# Altium integrated library Ferrite_Bead.IntLib: 160 symbols (part 1 of 2)
Pins are listed as number, name and electrical type; pins without a type are passive.

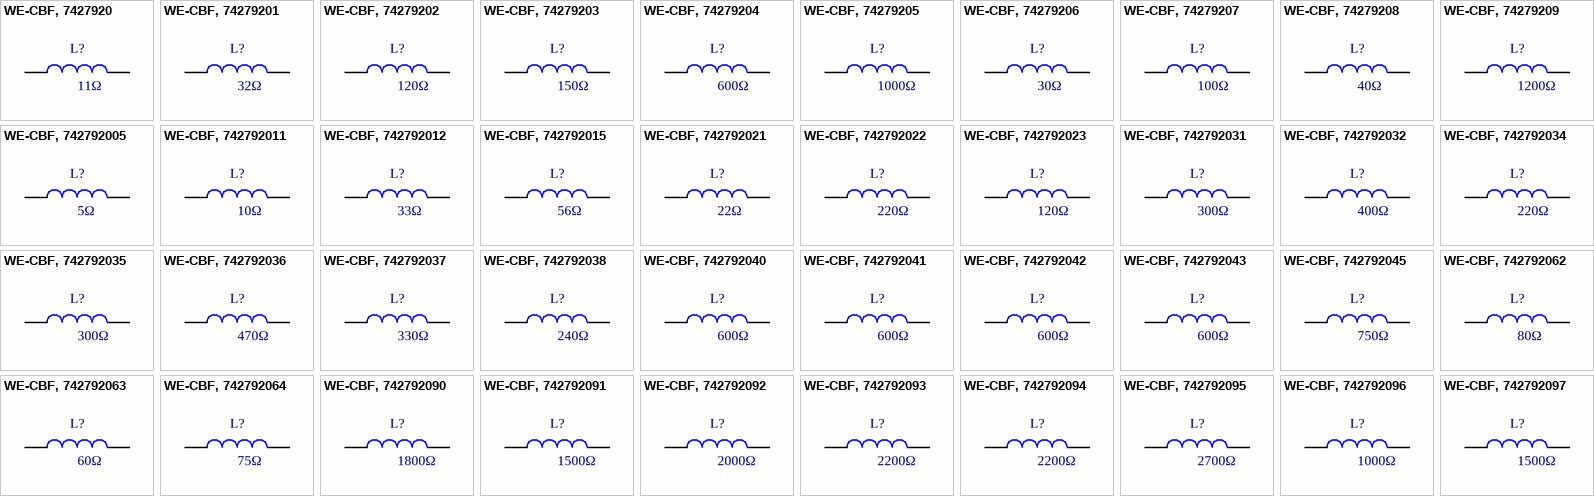
[diagram p0: symbols WE-CBF, 7427920 to WE-CBF, 742792097]

## WE-CBF, 7427920
designator L?, comment 11Ω
WE-CBF SMD EMI Suppression Ferrite Bead, 0805, 11Ω; PartNumber: 7427920; Type: High Speed; PublishedDate: Aug 2016; Publisher: Wurth Elektronik; ComponentLink1Description: Manufacturer; ComponentLink1URL: http://www.we-online.de; ComponentLink2Description: Datasheet; ComponentLink2URL: http://katalog.we-online.de/pbs/datasheet/7427920.pdf; Value: 11Ω; Size: 0805
footprint WE-CBF_0805_High Speed
pins: 1, 2

## WE-CBF, 74279201
designator L?, comment 32Ω
WE-CBF SMD EMI Suppression Ferrite Bead, 0805, 32Ω; PartNumber: 74279201; Type: High Speed; PublishedDate: Aug 2016; Publisher: Wurth Elektronik; ComponentLink1Description: Manufacturer; ComponentLink1URL: http://www.we-online.de; ComponentLink2Description: Datasheet; ComponentLink2URL: http://katalog.we-online.de/pbs/datasheet/74279201.pdf; Value: 32Ω; Size: 0805
footprint WE-CBF_0805_High Speed
pins: 1, 2

## WE-CBF, 74279202
designator L?, comment 120Ω
WE-CBF SMD EMI Suppression Ferrite Bead, 0805, 120Ω; PartNumber: 74279202; Type: High Speed; PublishedDate: Aug 2016; Publisher: Wurth Elektronik; ComponentLink1Description: Manufacturer; ComponentLink1URL: http://www.we-online.de; ComponentLink2Description: Datasheet; ComponentLink2URL: http://katalog.we-online.de/pbs/datasheet/74279202.pdf; Value: 120Ω; Size: 0805
footprint WE-CBF_0805_High Speed
pins: 1, 2

## WE-CBF, 74279203
designator L?, comment 150Ω
WE-CBF SMD EMI Suppression Ferrite Bead, 0805, 150Ω; PartNumber: 74279203; Type: High Speed; PublishedDate: Aug 2016; Publisher: Wurth Elektronik; ComponentLink1Description: Manufacturer; ComponentLink1URL: http://www.we-online.de; ComponentLink2Description: Datasheet; ComponentLink2URL: http://katalog.we-online.de/pbs/datasheet/74279203.pdf; Value: 150Ω; Size: 0805
footprint WE-CBF_0805_High Speed
pins: 1, 2

## WE-CBF, 74279204
designator L?, comment 600Ω
WE-CBF SMD EMI Suppression Ferrite Bead, 0805, 600Ω; PartNumber: 74279204; Type: Wide Band; PublishedDate: Aug 2016; Publisher: Wurth Elektronik; ComponentLink1Description: Manufacturer; ComponentLink1URL: http://www.we-online.de; ComponentLink2Description: Datasheet; ComponentLink2URL: http://katalog.we-online.de/pbs/datasheet/74279204.pdf; Value: 600Ω; Size: 0805
footprint WE-CBF_0805_Wide Band
pins: 1, 2

## WE-CBF, 74279205
designator L?, comment 1000Ω
WE-CBF SMD EMI Suppression Ferrite Bead, 0805, 1000Ω; PartNumber: 74279205; Type: Wide Band; PublishedDate: Aug 2016; Publisher: Wurth Elektronik; ComponentLink1Description: Manufacturer; ComponentLink1URL: http://www.we-online.de; ComponentLink2Description: Datasheet; ComponentLink2URL: http://katalog.we-online.de/pbs/datasheet/74279205.pdf; Value: 1000Ω; Size: 0805
footprint WE-CBF_0805_Wide Band
pins: 1, 2

## WE-CBF, 74279206
designator L?, comment 30Ω
WE-CBF SMD EMI Suppression Ferrite Bead, 0805, 30Ω; PartNumber: 74279206; Type: High Current; PublishedDate: Aug 2016; Publisher: Wurth Elektronik; ComponentLink1Description: Manufacturer; ComponentLink1URL: http://www.we-online.de; ComponentLink2Description: Datasheet; ComponentLink2URL: http://katalog.we-online.de/pbs/datasheet/74279206.pdf; Value: 30Ω; Size: 0805
footprint WE-CBF_0805_High Current
pins: 1, 2

## WE-CBF, 74279207
designator L?, comment 100Ω
WE-CBF SMD EMI Suppression Ferrite Bead, 0805, 100Ω; PartNumber: 74279207; Type: High Current; PublishedDate: Aug 2016; Publisher: Wurth Elektronik; ComponentLink1Description: Manufacturer; ComponentLink1URL: http://www.we-online.de; ComponentLink2Description: Datasheet; ComponentLink2URL: http://katalog.we-online.de/pbs/datasheet/74279207.pdf; Value: 100Ω; Size: 0805
footprint WE-CBF_0805_High Current
pins: 1, 2

## WE-CBF, 74279208
designator L?, comment 40Ω
WE-CBF SMD EMI Suppression Ferrite Bead, 0805, 40Ω; PartNumber: 74279208; Type: High Speed; PublishedDate: Aug 2016; Publisher: Wurth Elektronik; ComponentLink1Description: Manufacturer; ComponentLink1URL: http://www.we-online.de; ComponentLink2Description: Datasheet; ComponentLink2URL: http://katalog.we-online.de/pbs/datasheet/74279208.pdf; Value: 40Ω; Size: 0805
footprint WE-CBF_0805_High Speed
pins: 1, 2

## WE-CBF, 74279209
designator L?, comment 1200Ω
WE-CBF SMD EMI Suppression Ferrite Bead, 0805, 1200Ω; PartNumber: 74279209; Type: Wide Band; PublishedDate: Aug 2016; Publisher: Wurth Elektronik; ComponentLink1Description: Manufacturer; ComponentLink1URL: http://www.we-online.de; ComponentLink2Description: Datasheet; ComponentLink2URL: http://katalog.we-online.de/pbs/datasheet/74279209.pdf; Value: 1200Ω; Size: 0805
footprint WE-CBF_0805_Wide Band
pins: 1, 2

## WE-CBF, 742792005
designator L?, comment 5Ω
WE-CBF SMD EMI Suppression Ferrite Bead, 0805, 5Ω; PartNumber: 742792005; Type: High Speed; PublishedDate: Aug 2016; Publisher: Wurth Elektronik; ComponentLink1Description: Manufacturer; ComponentLink1URL: http://www.we-online.de; ComponentLink2Description: Datasheet; ComponentLink2URL: http://katalog.we-online.de/pbs/datasheet/742792005.pdf; Value: 5Ω; Size: 0805
footprint WE-CBF_0805_High Speed
pins: 1, 2

## WE-CBF, 742792011
designator L?, comment 10Ω
WE-CBF SMD EMI Suppression Ferrite Bead, 0805, 10Ω; PartNumber: 742792011; Type: High Current; PublishedDate: Aug 2016; Publisher: Wurth Elektronik; ComponentLink1Description: Manufacturer; ComponentLink1URL: http://www.we-online.de; ComponentLink2Description: Datasheet; ComponentLink2URL: http://katalog.we-online.de/pbs/datasheet/742792011.pdf; Value: 10Ω; Size: 0805
footprint WE-CBF_0805_High Current
pins: 1, 2

## WE-CBF, 742792012
designator L?, comment 33Ω
WE-CBF SMD EMI Suppression Ferrite Bead, 0805, 33Ω; PartNumber: 742792012; Type: High Current; PublishedDate: Aug 2016; Publisher: Wurth Elektronik; ComponentLink1Description: Manufacturer; ComponentLink1URL: http://www.we-online.de; ComponentLink2Description: Datasheet; ComponentLink2URL: http://katalog.we-online.de/pbs/datasheet/742792012.pdf; Value: 33Ω; Size: 0805
footprint WE-CBF_0805_High Current
pins: 1, 2

## WE-CBF, 742792015
designator L?, comment 56Ω
WE-CBF SMD EMI Suppression Ferrite Bead, 0805, 56Ω; PartNumber: 742792015; Type: Wide Band; PublishedDate: Aug 2016; Publisher: Wurth Elektronik; ComponentLink1Description: Manufacturer; ComponentLink1URL: http://www.we-online.de; ComponentLink2Description: Datasheet; ComponentLink2URL: http://katalog.we-online.de/pbs/datasheet/742792015.pdf; Value: 56Ω; Size: 0805
footprint WE-CBF_0805_Wide Band
pins: 1, 2

## WE-CBF, 742792021
designator L?, comment 22Ω
WE-CBF SMD EMI Suppression Ferrite Bead, 0805, 22Ω; PartNumber: 742792021; Type: High Current; PublishedDate: Aug 2016; Publisher: Wurth Elektronik; ComponentLink1Description: Manufacturer; ComponentLink1URL: http://www.we-online.de; ComponentLink2Description: Datasheet; ComponentLink2URL: http://katalog.we-online.de/pbs/datasheet/742792021.pdf; Value: 22Ω; Size: 0805
footprint WE-CBF_0805_High Current
pins: 1, 2

## WE-CBF, 742792022
designator L?, comment 220Ω
WE-CBF SMD EMI Suppression Ferrite Bead, 0805, 220Ω; PartNumber: 742792022; Type: High Current; PublishedDate: Aug 2016; Publisher: Wurth Elektronik; ComponentLink1Description: Manufacturer; ComponentLink1URL: http://www.we-online.de; ComponentLink2Description: Datasheet; ComponentLink2URL: http://katalog.we-online.de/pbs/datasheet/742792022.pdf; Value: 220Ω; Size: 0805
footprint WE-CBF_0805_High Current
pins: 1, 2

## WE-CBF, 742792023
designator L?, comment 120Ω
WE-CBF SMD EMI Suppression Ferrite Bead, 0805, 120Ω; PartNumber: 742792023; Type: High Current; PublishedDate: Aug 2016; Publisher: Wurth Elektronik; ComponentLink1Description: Manufacturer; ComponentLink1URL: http://www.we-online.de; ComponentLink2Description: Datasheet; ComponentLink2URL: http://katalog.we-online.de/pbs/datasheet/742792023.pdf; Value: 120Ω; Size: 0805
footprint WE-CBF_0805_High Current
pins: 1, 2

## WE-CBF, 742792031
designator L?, comment 300Ω
WE-CBF SMD EMI Suppression Ferrite Bead, 0805, 300Ω; PartNumber: 742792031; Type: High Current; PublishedDate: Aug 2016; Publisher: Wurth Elektronik; ComponentLink1Description: Manufacturer; ComponentLink1URL: http://www.we-online.de; ComponentLink2Description: Datasheet; ComponentLink2URL: http://katalog.we-online.de/pbs/datasheet/742792031.pdf; Value: 300Ω; Size: 0805
footprint WE-CBF_0805_High Current
pins: 1, 2

## WE-CBF, 742792032
designator L?, comment 400Ω
WE-CBF SMD EMI Suppression Ferrite Bead, 0805, 400Ω; PartNumber: 742792032; Type: Wide Band; PublishedDate: Aug 2016; Publisher: Wurth Elektronik; ComponentLink1Description: Manufacturer; ComponentLink1URL: http://www.we-online.de; ComponentLink2Description: Datasheet; ComponentLink2URL: http://katalog.we-online.de/pbs/datasheet/742792032.pdf; Value: 400Ω; Size: 0805
footprint WE-CBF_0805_Wide Band
pins: 1, 2

## WE-CBF, 742792034
designator L?, comment 220Ω
WE-CBF SMD EMI Suppression Ferrite Bead, 0805, 220Ω; PartNumber: 742792034; Type: High Speed; PublishedDate: Aug 2016; Publisher: Wurth Elektronik; ComponentLink1Description: Manufacturer; ComponentLink1URL: http://www.we-online.de; ComponentLink2Description: Datasheet; ComponentLink2URL: http://katalog.we-online.de/pbs/datasheet/742792034.pdf; Value: 220Ω; Size: 0805
footprint WE-CBF_0805_High Speed
pins: 1, 2

## WE-CBF, 742792035
designator L?, comment 300Ω
WE-CBF SMD EMI Suppression Ferrite Bead, 0805, 300Ω; PartNumber: 742792035; Type: High Speed; PublishedDate: Aug 2016; Publisher: Wurth Elektronik; ComponentLink1Description: Manufacturer; ComponentLink1URL: http://www.we-online.de; ComponentLink2Description: Datasheet; ComponentLink2URL: http://katalog.we-online.de/pbs/datasheet/742792035.pdf; Value: 300Ω; Size: 0805
footprint WE-CBF_0805_High Speed
pins: 1, 2

## WE-CBF, 742792036
designator L?, comment 470Ω
WE-CBF SMD EMI Suppression Ferrite Bead, 0805, 470Ω; PartNumber: 742792036; Type: Wide Band; PublishedDate: Aug 2016; Publisher: Wurth Elektronik; ComponentLink1Description: Manufacturer; ComponentLink1URL: http://www.we-online.de; ComponentLink2Description: Datasheet; ComponentLink2URL: http://katalog.we-online.de/pbs/datasheet/742792036.pdf; Value: 470Ω; Size: 0805
footprint WE-CBF_0805_Wide Band
pins: 1, 2

## WE-CBF, 742792037
designator L?, comment 330Ω
WE-CBF SMD EMI Suppression Ferrite Bead, 0805, 330Ω; PartNumber: 742792037; Type: High Current; PublishedDate: Aug 2016; Publisher: Wurth Elektronik; ComponentLink1Description: Manufacturer; ComponentLink1URL: http://www.we-online.de; ComponentLink2Description: Datasheet; ComponentLink2URL: http://katalog.we-online.de/pbs/datasheet/742792037.pdf; Value: 330Ω; Size: 0805
footprint WE-CBF_0805_High Current
pins: 1, 2

## WE-CBF, 742792038
designator L?, comment 240Ω
WE-CBF SMD EMI Suppression Ferrite Bead, 0805, 240Ω; PartNumber: 742792038; Type: Wide Band; PublishedDate: Aug 2016; Publisher: Wurth Elektronik; ComponentLink1Description: Manufacturer; ComponentLink1URL: http://www.we-online.de; ComponentLink2Description: Datasheet; ComponentLink2URL: http://katalog.we-online.de/pbs/datasheet/742792038.pdf; Value: 240Ω; Size: 0805
footprint WE-CBF_0805_Wide Band
pins: 1, 2

## WE-CBF, 742792040
designator L?, comment 600Ω
WE-CBF SMD EMI Suppression Ferrite Bead, 0805, 600Ω; PartNumber: 742792040; Type: High Current; PublishedDate: Aug 2016; Publisher: Wurth Elektronik; ComponentLink1Description: Manufacturer; ComponentLink1URL: http://www.we-online.de; ComponentLink2Description: Datasheet; ComponentLink2URL: http://katalog.we-online.de/pbs/datasheet/742792040.pdf; Value: 600Ω; Size: 0805
footprint WE-CBF_0805_High Current
pins: 1, 2

## WE-CBF, 742792041
designator L?, comment 600Ω
WE-CBF SMD EMI Suppression Ferrite Bead, 0805, 600Ω; PartNumber: 742792041; Type: Wide Band; PublishedDate: Aug 2016; Publisher: Wurth Elektronik; ComponentLink1Description: Manufacturer; ComponentLink1URL: http://www.we-online.de; ComponentLink2Description: Datasheet; ComponentLink2URL: http://katalog.we-online.de/pbs/datasheet/742792041.pdf; Value: 600Ω; Size: 0805
footprint WE-CBF_0805_Wide Band
pins: 1, 2

## WE-CBF, 742792042
designator L?, comment 600Ω
WE-CBF SMD EMI Suppression Ferrite Bead, 0805, 600Ω; PartNumber: 742792042; Type: High Speed; PublishedDate: Aug 2016; Publisher: Wurth Elektronik; ComponentLink1Description: Manufacturer; ComponentLink1URL: http://www.we-online.de; ComponentLink2Description: Datasheet; ComponentLink2URL: http://katalog.we-online.de/pbs/datasheet/742792042.pdf; Value: 600Ω; Size: 0805
footprint WE-CBF_0805_High Speed
pins: 1, 2

## WE-CBF, 742792043
designator L?, comment 600Ω
WE-CBF SMD EMI Suppression Ferrite Bead, 0805, 600Ω; PartNumber: 742792043; Type: High Speed; PublishedDate: Aug 2016; Publisher: Wurth Elektronik; ComponentLink1Description: Manufacturer; ComponentLink1URL: http://www.we-online.de; ComponentLink2Description: Datasheet; ComponentLink2URL: http://katalog.we-online.de/pbs/datasheet/742792043.pdf; Value: 600Ω; Size: 0805
footprint WE-CBF_0805_High Speed
pins: 1, 2

## WE-CBF, 742792045
designator L?, comment 750Ω
WE-CBF SMD EMI Suppression Ferrite Bead, 0805, 750Ω; PartNumber: 742792045; Type: High Speed; PublishedDate: Aug 2016; Publisher: Wurth Elektronik; ComponentLink1Description: Manufacturer; ComponentLink1URL: http://www.we-online.de; ComponentLink2Description: Datasheet; ComponentLink2URL: http://katalog.we-online.de/pbs/datasheet/742792045.pdf; Value: 750Ω; Size: 0805
footprint WE-CBF_0805_High Speed
pins: 1, 2

## WE-CBF, 742792062
designator L?, comment 80Ω
WE-CBF SMD EMI Suppression Ferrite Bead, 0805, 80Ω; PartNumber: 742792062; Type: Wide Band; PublishedDate: Aug 2016; Publisher: Wurth Elektronik; ComponentLink1Description: Manufacturer; ComponentLink1URL: http://www.we-online.de; ComponentLink2Description: Datasheet; ComponentLink2URL: http://katalog.we-online.de/pbs/datasheet/742792062.pdf; Value: 80Ω; Size: 0805
footprint WE-CBF_0805_Wide Band
pins: 1, 2

## WE-CBF, 742792063
designator L?, comment 60Ω
WE-CBF SMD EMI Suppression Ferrite Bead, 0805, 60Ω; PartNumber: 742792063; Type: High Current; PublishedDate: Aug 2016; Publisher: Wurth Elektronik; ComponentLink1Description: Manufacturer; ComponentLink1URL: http://www.we-online.de; ComponentLink2Description: Datasheet; ComponentLink2URL: http://katalog.we-online.de/pbs/datasheet/742792063.pdf; Value: 60Ω; Size: 0805
footprint WE-CBF_0805_High Current
pins: 1, 2

## WE-CBF, 742792064
designator L?, comment 75Ω
WE-CBF SMD EMI Suppression Ferrite Bead, 0805, 75Ω; PartNumber: 742792064; Type: High Speed; PublishedDate: Aug 2016; Publisher: Wurth Elektronik; ComponentLink1Description: Manufacturer; ComponentLink1URL: http://www.we-online.de; ComponentLink2Description: Datasheet; ComponentLink2URL: http://katalog.we-online.de/pbs/datasheet/742792064.pdf; Value: 75Ω; Size: 0805
footprint WE-CBF_0805_High Speed
pins: 1, 2

## WE-CBF, 742792090
designator L?, comment 1800Ω
WE-CBF SMD EMI Suppression Ferrite Bead, 0805, 1800Ω; PartNumber: 742792090; Type: Wide Band; PublishedDate: Aug 2016; Publisher: Wurth Elektronik; ComponentLink1Description: Manufacturer; ComponentLink1URL: http://www.we-online.de; ComponentLink2Description: Datasheet; ComponentLink2URL: http://katalog.we-online.de/pbs/datasheet/742792090.pdf; Value: 1800Ω; Size: 0805
footprint WE-CBF_0805_Wide Band
pins: 1, 2

## WE-CBF, 742792091
designator L?, comment 1500Ω
WE-CBF SMD EMI Suppression Ferrite Bead, 0805, 1500Ω; PartNumber: 742792091; Type: Wide Band; PublishedDate: Aug 2016; Publisher: Wurth Elektronik; ComponentLink1Description: Manufacturer; ComponentLink1URL: http://www.we-online.de; ComponentLink2Description: Datasheet; ComponentLink2URL: http://katalog.we-online.de/pbs/datasheet/742792091.pdf; Value: 1500Ω; Size: 0805
footprint WE-CBF_0805_Wide Band
pins: 1, 2

## WE-CBF, 742792092
designator L?, comment 2000Ω
WE-CBF SMD EMI Suppression Ferrite Bead, 0805, 2000Ω; PartNumber: 742792092; Type: Wide Band; PublishedDate: Aug 2016; Publisher: Wurth Elektronik; ComponentLink1Description: Manufacturer; ComponentLink1URL: http://www.we-online.de; ComponentLink2Description: Datasheet; ComponentLink2URL: http://katalog.we-online.de/pbs/datasheet/742792092.pdf; Value: 2000Ω; Size: 0805
footprint WE-CBF_0805_Wide Band
pins: 1, 2

## WE-CBF, 742792093
designator L?, comment 2200Ω
WE-CBF SMD EMI Suppression Ferrite Bead, 0805, 2200Ω; PartNumber: 742792093; Type: Wide Band; PublishedDate: Aug 2016; Publisher: Wurth Elektronik; ComponentLink1Description: Manufacturer; ComponentLink1URL: http://www.we-online.de; ComponentLink2Description: Datasheet; ComponentLink2URL: http://katalog.we-online.de/pbs/datasheet/742792093.pdf; Value: 2200Ω; Size: 0805
footprint WE-CBF_0805_Wide Band
pins: 1, 2

## WE-CBF, 742792094
designator L?, comment 2200Ω
WE-CBF SMD EMI Suppression Ferrite Bead, 0805, 2200Ω; PartNumber: 742792094; Type: Wide Band; PublishedDate: Aug 2016; Publisher: Wurth Elektronik; ComponentLink1Description: Manufacturer; ComponentLink1URL: http://www.we-online.de; ComponentLink2Description: Datasheet; ComponentLink2URL: http://katalog.we-online.de/pbs/datasheet/742792094.pdf; Value: 2200Ω; Size: 0805
footprint WE-CBF_0805_Wide Band
pins: 1, 2

## WE-CBF, 742792095
designator L?, comment 2700Ω
WE-CBF SMD EMI Suppression Ferrite Bead, 0805, 2700Ω; PartNumber: 742792095; Type: Wide Band; PublishedDate: Aug 2016; Publisher: Wurth Elektronik; ComponentLink1Description: Manufacturer; ComponentLink1URL: http://www.we-online.de; ComponentLink2Description: Datasheet; ComponentLink2URL: http://katalog.we-online.de/pbs/datasheet/742792095.pdf; Value: 2700Ω; Size: 0805
footprint WE-CBF_0805_Wide Band
pins: 1, 2

## WE-CBF, 742792096
designator L?, comment 1000Ω
WE-CBF SMD EMI Suppression Ferrite Bead, 0805, 1000Ω; PartNumber: 742792096; Type: High Current; PublishedDate: Aug 2016; Publisher: Wurth Elektronik; ComponentLink1Description: Manufacturer; ComponentLink1URL: http://www.we-online.de; ComponentLink2Description: Datasheet; ComponentLink2URL: http://katalog.we-online.de/pbs/datasheet/742792096.pdf; Value: 1000Ω; Size: 0805
footprint WE-CBF_0805_High Current
pins: 1, 2

## WE-CBF, 742792097
designator L?, comment 1500Ω
WE-CBF SMD EMI Suppression Ferrite Bead, 0805, 1500Ω; PartNumber: 742792097; Type: High Current; PublishedDate: Aug 2016; Publisher: Wurth Elektronik; ComponentLink1Description: Manufacturer; ComponentLink1URL: http://www.we-online.de; ComponentLink2Description: Datasheet; ComponentLink2URL: http://katalog.we-online.de/pbs/datasheet/742792097.pdf; Value: 1500Ω; Size: 0805
footprint WE-CBF_0805_High Current
pins: 1, 2

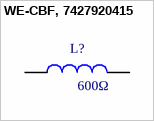
[diagram p1: symbol WE-CBF, 7427920415]

## WE-CBF, 7427920415
designator L?, comment 600Ω
WE-CBF SMD EMI Suppression Ferrite Bead, 0805, 600Ω; PartNumber: 7427920415; Type: Wide Band; PublishedDate: Aug 2016; Publisher: Wurth Elektronik; ComponentLink1Description: Manufacturer; ComponentLink1URL: http://www.we-online.de; ComponentLink2Description: Datasheet; ComponentLink2URL: http://katalog.we-online.de/pbs/datasheet/7427920415.pdf; Value: 600Ω; Size: 0805
footprint WE-CBF_0805_Wide Band
pins: 1, 2


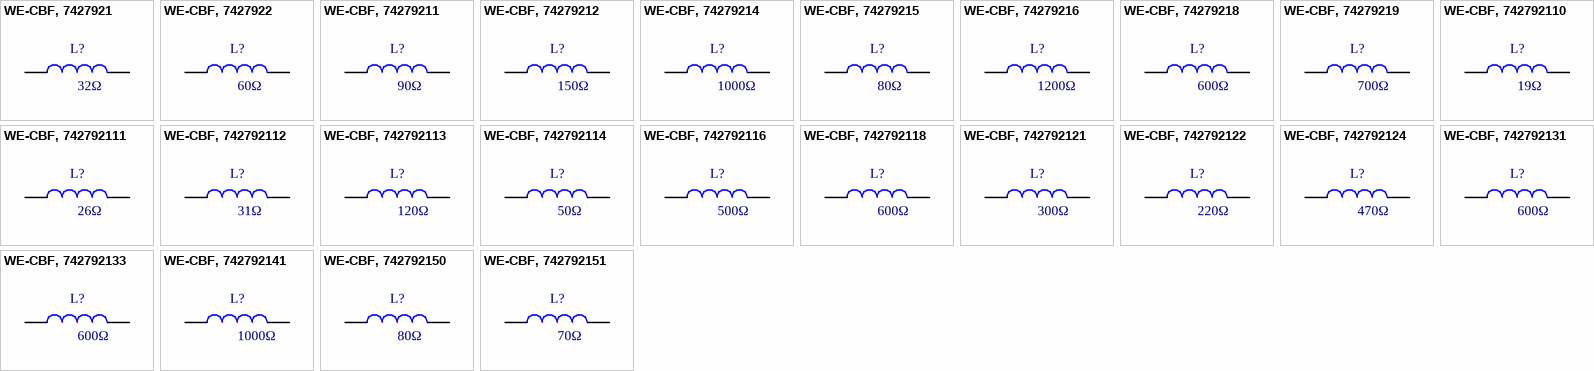
[diagram p2: symbols WE-CBF, 7427921 to WE-CBF, 742792151]

## WE-CBF, 7427921
designator L?, comment 32Ω
WE-CBF SMD EMI Suppression Ferrite Bead, 1206, 32Ω; PartNumber: 7427921; Type: High Speed; PublishedDate: Aug 2016; Publisher: Wurth Elektronik; ComponentLink1Description: Manufacturer; ComponentLink1URL: http://www.we-online.de; ComponentLink2Description: Datasheet; ComponentLink2URL: http://katalog.we-online.de/pbs/datasheet/7427921.pdf; Value: 32Ω; Size: 1206
footprint WE-CBF_1206_High Speed
pins: 1, 2

## WE-CBF, 7427922
designator L?, comment 60Ω
WE-CBF SMD EMI Suppression Ferrite Bead, 1206, 60Ω; PartNumber: 7427922; Type: High Speed; PublishedDate: Aug 2016; Publisher: Wurth Elektronik; ComponentLink1Description: Manufacturer; ComponentLink1URL: http://www.we-online.de; ComponentLink2Description: Datasheet; ComponentLink2URL: http://katalog.we-online.de/pbs/datasheet/7427922.pdf; Value: 60Ω; Size: 1206
footprint WE-CBF_1206_High Speed
pins: 1, 2

## WE-CBF, 74279211
designator L?, comment 90Ω
WE-CBF SMD EMI Suppression Ferrite Bead, 1206, 90Ω; PartNumber: 74279211; Type: High Speed; PublishedDate: Aug 2016; Publisher: Wurth Elektronik; ComponentLink1Description: Manufacturer; ComponentLink1URL: http://www.we-online.de; ComponentLink2Description: Datasheet; ComponentLink2URL: http://katalog.we-online.de/pbs/datasheet/74279211.pdf; Value: 90Ω; Size: 1206
footprint WE-CBF_1206_High Speed
pins: 1, 2

## WE-CBF, 74279212
designator L?, comment 150Ω
WE-CBF SMD EMI Suppression Ferrite Bead, 1206, 150Ω; PartNumber: 74279212; Type: High Speed; PublishedDate: Aug 2016; Publisher: Wurth Elektronik; ComponentLink1Description: Manufacturer; ComponentLink1URL: http://www.we-online.de; ComponentLink2Description: Datasheet; ComponentLink2URL: http://katalog.we-online.de/pbs/datasheet/74279212.pdf; Value: 150Ω; Size: 1206
footprint WE-CBF_1206_High Speed
pins: 1, 2

## WE-CBF, 74279214
designator L?, comment 1000Ω
WE-CBF SMD EMI Suppression Ferrite Bead, 1206, 1000Ω; PartNumber: 74279214; Type: Wide Band; PublishedDate: Aug 2016; Publisher: Wurth Elektronik; ComponentLink1Description: Manufacturer; ComponentLink1URL: http://www.we-online.de; ComponentLink2Description: Datasheet; ComponentLink2URL: http://katalog.we-online.de/pbs/datasheet/74279214.pdf; Value: 1000Ω; Size: 1206
footprint WE-CBF_1206_Wide Band
pins: 1, 2

## WE-CBF, 74279215
designator L?, comment 80Ω
WE-CBF SMD EMI Suppression Ferrite Bead, 1206, 80Ω; PartNumber: 74279215; Type: High Current; PublishedDate: Aug 2016; Publisher: Wurth Elektronik; ComponentLink1Description: Manufacturer; ComponentLink1URL: http://www.we-online.de; ComponentLink2Description: Datasheet; ComponentLink2URL: http://katalog.we-online.de/pbs/datasheet/74279215.pdf; Value: 80Ω; Size: 1206
footprint WE-CBF_1206_High Current
pins: 1, 2

## WE-CBF, 74279216
designator L?, comment 1200Ω
WE-CBF SMD EMI Suppression Ferrite Bead, 1206, 1200Ω; PartNumber: 74279216; Type: Wide Band; PublishedDate: Aug 2016; Publisher: Wurth Elektronik; ComponentLink1Description: Manufacturer; ComponentLink1URL: http://www.we-online.de; ComponentLink2Description: Datasheet; ComponentLink2URL: http://katalog.we-online.de/pbs/datasheet/74279216.pdf; Value: 1200Ω; Size: 1206
footprint WE-CBF_1206_Wide Band
pins: 1, 2

## WE-CBF, 74279218
designator L?, comment 600Ω
WE-CBF SMD EMI Suppression Ferrite Bead, 1206, 600Ω; PartNumber: 74279218; Type: High Current; PublishedDate: Aug 2016; Publisher: Wurth Elektronik; ComponentLink1Description: Manufacturer; ComponentLink1URL: http://www.we-online.de; ComponentLink2Description: Datasheet; ComponentLink2URL: http://katalog.we-online.de/pbs/datasheet/74279218.pdf; Value: 600Ω; Size: 1206
footprint WE-CBF_1206_High Current
pins: 1, 2

## WE-CBF, 74279219
designator L?, comment 700Ω
WE-CBF SMD EMI Suppression Ferrite Bead, 1206, 700Ω; PartNumber: 74279219; Type: Wide Band; PublishedDate: Aug 2016; Publisher: Wurth Elektronik; ComponentLink1Description: Manufacturer; ComponentLink1URL: http://www.we-online.de; ComponentLink2Description: Datasheet; ComponentLink2URL: http://katalog.we-online.de/pbs/datasheet/74279219.pdf; Value: 700Ω; Size: 1206
footprint WE-CBF_1206_Wide Band
pins: 1, 2

## WE-CBF, 742792110
designator L?, comment 19Ω
WE-CBF SMD EMI Suppression Ferrite Bead, 1206, 19Ω; PartNumber: 742792110; Type: High Current; PublishedDate: Aug 2016; Publisher: Wurth Elektronik; ComponentLink1Description: Manufacturer; ComponentLink1URL: http://www.we-online.de; ComponentLink2Description: Datasheet; ComponentLink2URL: http://katalog.we-online.de/pbs/datasheet/742792110.pdf; Value: 19Ω; Size: 1206
footprint WE-CBF_1206_High Current
pins: 1, 2

## WE-CBF, 742792111
designator L?, comment 26Ω
WE-CBF SMD EMI Suppression Ferrite Bead, 1206, 26Ω; PartNumber: 742792111; Type: High Current; PublishedDate: Aug 2016; Publisher: Wurth Elektronik; ComponentLink1Description: Manufacturer; ComponentLink1URL: http://www.we-online.de; ComponentLink2Description: Datasheet; ComponentLink2URL: http://katalog.we-online.de/pbs/datasheet/742792111.pdf; Value: 26Ω; Size: 1206
footprint WE-CBF_1206_High Current
pins: 1, 2

## WE-CBF, 742792112
designator L?, comment 31Ω
WE-CBF SMD EMI Suppression Ferrite Bead, 1206, 31Ω; PartNumber: 742792112; Type: High Current; PublishedDate: Aug 2016; Publisher: Wurth Elektronik; ComponentLink1Description: Manufacturer; ComponentLink1URL: http://www.we-online.de; ComponentLink2Description: Datasheet; ComponentLink2URL: http://katalog.we-online.de/pbs/datasheet/742792112.pdf; Value: 31Ω; Size: 1206
footprint WE-CBF_1206_High Current
pins: 1, 2

## WE-CBF, 742792113
designator L?, comment 120Ω
WE-CBF SMD EMI Suppression Ferrite Bead, 1206, 120Ω; PartNumber: 742792113; Type: High Current; PublishedDate: Aug 2016; Publisher: Wurth Elektronik; ComponentLink1Description: Manufacturer; ComponentLink1URL: http://www.we-online.de; ComponentLink2Description: Datasheet; ComponentLink2URL: http://katalog.we-online.de/pbs/datasheet/742792113.pdf; Value: 120Ω; Size: 1206
footprint WE-CBF_1206_High Current
pins: 1, 2

## WE-CBF, 742792114
designator L?, comment 50Ω
WE-CBF SMD EMI Suppression Ferrite Bead, 1206, 50Ω; PartNumber: 742792114; Type: High Current; PublishedDate: Aug 2016; Publisher: Wurth Elektronik; ComponentLink1Description: Manufacturer; ComponentLink1URL: http://www.we-online.de; ComponentLink2Description: Datasheet; ComponentLink2URL: http://katalog.we-online.de/pbs/datasheet/742792114.pdf; Value: 50Ω; Size: 1206
footprint WE-CBF_1206_High Current
pins: 1, 2

## WE-CBF, 742792116
designator L?, comment 500Ω
WE-CBF SMD EMI Suppression Ferrite Bead, 1206, 500Ω; PartNumber: 742792116; Type: High Current; PublishedDate: Aug 2016; Publisher: Wurth Elektronik; ComponentLink1Description: Manufacturer; ComponentLink1URL: http://www.we-online.de; ComponentLink2Description: Datasheet; ComponentLink2URL: http://katalog.we-online.de/pbs/datasheet/742792116.pdf; Value: 500Ω; Size: 1206
footprint WE-CBF_1206_High Current
pins: 1, 2

## WE-CBF, 742792118
designator L?, comment 600Ω
WE-CBF SMD EMI Suppression Ferrite Bead, 1206, 600Ω; PartNumber: 742792118; Type: High Current; PublishedDate: Aug 2016; Publisher: Wurth Elektronik; ComponentLink1Description: Manufacturer; ComponentLink1URL: http://www.we-online.de; ComponentLink2Description: Datasheet; ComponentLink2URL: http://katalog.we-online.de/pbs/datasheet/742792118.pdf; Value: 600Ω; Size: 1206
footprint WE-CBF_1206_High Current
pins: 1, 2

## WE-CBF, 742792121
designator L?, comment 300Ω
WE-CBF SMD EMI Suppression Ferrite Bead, 1206, 300Ω; PartNumber: 742792121; Type: High Current; PublishedDate: Aug 2016; Publisher: Wurth Elektronik; ComponentLink1Description: Manufacturer; ComponentLink1URL: http://www.we-online.de; ComponentLink2Description: Datasheet; ComponentLink2URL: http://katalog.we-online.de/pbs/datasheet/742792121.pdf; Value: 300Ω; Size: 1206
footprint WE-CBF_1206_High Current
pins: 1, 2

## WE-CBF, 742792122
designator L?, comment 220Ω
WE-CBF SMD EMI Suppression Ferrite Bead, 1206, 220Ω; PartNumber: 742792122; Type: High Speed; PublishedDate: Aug 2016; Publisher: Wurth Elektronik; ComponentLink1Description: Manufacturer; ComponentLink1URL: http://www.we-online.de; ComponentLink2Description: Datasheet; ComponentLink2URL: http://katalog.we-online.de/pbs/datasheet/742792122.pdf; Value: 220Ω; Size: 1206
footprint WE-CBF_1206_High Speed
pins: 1, 2

## WE-CBF, 742792124
designator L?, comment 470Ω
WE-CBF SMD EMI Suppression Ferrite Bead, 1206, 470Ω; PartNumber: 742792124; Type: Wide Band; PublishedDate: Aug 2016; Publisher: Wurth Elektronik; ComponentLink1Description: Manufacturer; ComponentLink1URL: http://www.we-online.de; ComponentLink2Description: Datasheet; ComponentLink2URL: http://katalog.we-online.de/pbs/datasheet/742792124.pdf; Value: 470Ω; Size: 1206
footprint WE-CBF_1206_Wide Band
pins: 1, 2

## WE-CBF, 742792131
designator L?, comment 600Ω
WE-CBF SMD EMI Suppression Ferrite Bead, 1206, 600Ω; PartNumber: 742792131; Type: Wide Band; PublishedDate: Aug 2016; Publisher: Wurth Elektronik; ComponentLink1Description: Manufacturer; ComponentLink1URL: http://www.we-online.de; ComponentLink2Description: Datasheet; ComponentLink2URL: http://katalog.we-online.de/pbs/datasheet/742792131.pdf; Value: 600Ω; Size: 1206
footprint WE-CBF_1206_Wide Band
pins: 1, 2

## WE-CBF, 742792133
designator L?, comment 600Ω
WE-CBF SMD EMI Suppression Ferrite Bead, 1206, 600Ω; PartNumber: 742792133; Type: Wide Band; PublishedDate: Aug 2016; Publisher: Wurth Elektronik; ComponentLink1Description: Manufacturer; ComponentLink1URL: http://www.we-online.de; ComponentLink2Description: Datasheet; ComponentLink2URL: http://katalog.we-online.de/pbs/datasheet/742792133.pdf; Value: 600Ω; Size: 1206
footprint WE-CBF_1206_Wide Band
pins: 1, 2

## WE-CBF, 742792141
designator L?, comment 1000Ω
WE-CBF SMD EMI Suppression Ferrite Bead, 1206, 1000Ω; PartNumber: 742792141; Type: High Current; PublishedDate: Aug 2016; Publisher: Wurth Elektronik; ComponentLink1Description: Manufacturer; ComponentLink1URL: http://www.we-online.de; ComponentLink2Description: Datasheet; ComponentLink2URL: http://katalog.we-online.de/pbs/datasheet/742792141.pdf; Value: 1000Ω; Size: 1206
footprint WE-CBF_1206_High Current
pins: 1, 2

## WE-CBF, 742792150
designator L?, comment 80Ω
WE-CBF SMD EMI Suppression Ferrite Bead, 1206, 80Ω; PartNumber: 742792150; Type: High Current; PublishedDate: Aug 2016; Publisher: Wurth Elektronik; ComponentLink1Description: Manufacturer; ComponentLink1URL: http://www.we-online.de; ComponentLink2Description: Datasheet; ComponentLink2URL: http://katalog.we-online.de/pbs/datasheet/742792150.pdf; Value: 80Ω; Size: 1206
footprint WE-CBF_1206_High Current
pins: 1, 2

## WE-CBF, 742792151
designator L?, comment 70Ω
WE-CBF SMD EMI Suppression Ferrite Bead, 1206, 70Ω; PartNumber: 742792151; Type: High Speed; PublishedDate: Aug 2016; Publisher: Wurth Elektronik; ComponentLink1Description: Manufacturer; ComponentLink1URL: http://www.we-online.de; ComponentLink2Description: Datasheet; ComponentLink2URL: http://katalog.we-online.de/pbs/datasheet/742792151.pdf; Value: 70Ω; Size: 1206
footprint WE-CBF_1206_High Speed
pins: 1, 2


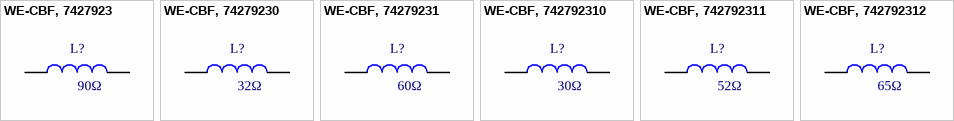
[diagram p3: symbols WE-CBF, 7427923 to WE-CBF, 742792312]

## WE-CBF, 7427923
designator L?, comment 90Ω
WE-CBF SMD EMI Suppression Ferrite Bead, 1210, 90Ω; PartNumber: 7427923; Type: High Speed; PublishedDate: Aug 2016; Publisher: Wurth Elektronik; ComponentLink1Description: Manufacturer; ComponentLink1URL: http://www.we-online.de; ComponentLink2Description: Datasheet; ComponentLink2URL: http://katalog.we-online.de/pbs/datasheet/7427923.pdf; Value: 90Ω; Size: 1210
footprint WE-CBF_1210_High Speed
pins: 1, 2

## WE-CBF, 74279230
designator L?, comment 32Ω
WE-CBF SMD EMI Suppression Ferrite Bead, 1210, 32Ω; PartNumber: 74279230; Type: High Speed; PublishedDate: Aug 2016; Publisher: Wurth Elektronik; ComponentLink1Description: Manufacturer; ComponentLink1URL: http://www.we-online.de; ComponentLink2Description: Datasheet; ComponentLink2URL: http://katalog.we-online.de/pbs/datasheet/74279230.pdf; Value: 32Ω; Size: 1210
footprint WE-CBF_1210_High Speed
pins: 1, 2

## WE-CBF, 74279231
designator L?, comment 60Ω
WE-CBF SMD EMI Suppression Ferrite Bead, 1210, 60Ω; PartNumber: 74279231; Type: High Speed; PublishedDate: Aug 2016; Publisher: Wurth Elektronik; ComponentLink1Description: Manufacturer; ComponentLink1URL: http://www.we-online.de; ComponentLink2Description: Datasheet; ComponentLink2URL: http://katalog.we-online.de/pbs/datasheet/74279231.pdf; Value: 60Ω; Size: 1210
footprint WE-CBF_1210_High Speed
pins: 1, 2

## WE-CBF, 742792310
designator L?, comment 30Ω
WE-CBF SMD EMI Suppression Ferrite Bead, 1210, 30Ω; PartNumber: 742792310; Type: High Current; PublishedDate: Aug 2016; Publisher: Wurth Elektronik; ComponentLink1Description: Manufacturer; ComponentLink1URL: http://www.we-online.de; ComponentLink2Description: Datasheet; ComponentLink2URL: http://katalog.we-online.de/pbs/datasheet/742792310.pdf; Value: 30Ω; Size: 1210
footprint WE-CBF_1210_High Current
pins: 1, 2

## WE-CBF, 742792311
designator L?, comment 52Ω
WE-CBF SMD EMI Suppression Ferrite Bead, 1210, 52Ω; PartNumber: 742792311; Type: High Current; PublishedDate: Aug 2016; Publisher: Wurth Elektronik; ComponentLink1Description: Manufacturer; ComponentLink1URL: http://www.we-online.de; ComponentLink2Description: Datasheet; ComponentLink2URL: http://katalog.we-online.de/pbs/datasheet/742792311.pdf; Value: 52Ω; Size: 1210
footprint WE-CBF_1210_High Current
pins: 1, 2

## WE-CBF, 742792312
designator L?, comment 65Ω
WE-CBF SMD EMI Suppression Ferrite Bead, 1210, 65Ω; PartNumber: 742792312; Type: High Current; PublishedDate: Aug 2016; Publisher: Wurth Elektronik; ComponentLink1Description: Manufacturer; ComponentLink1URL: http://www.we-online.de; ComponentLink2Description: Datasheet; ComponentLink2URL: http://katalog.we-online.de/pbs/datasheet/742792312.pdf; Value: 65Ω; Size: 1210
footprint WE-CBF_1210_High Current
pins: 1, 2


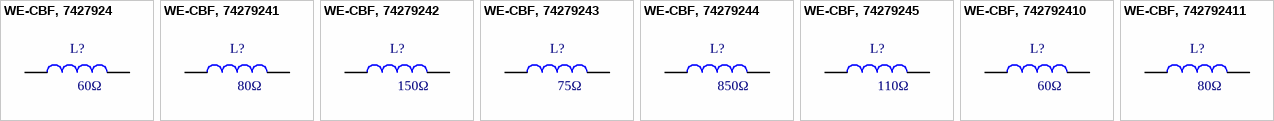
[diagram p4: symbols WE-CBF, 7427924 to WE-CBF, 742792411]

## WE-CBF, 7427924
designator L?, comment 60Ω
WE-CBF SMD EMI Suppression Ferrite Bead, 1806, 60Ω; PartNumber: 7427924; Type: High Speed; PublishedDate: Aug 2016; Publisher: Wurth Elektronik; ComponentLink1Description: Manufacturer; ComponentLink1URL: http://www.we-online.de; ComponentLink2Description: Datasheet; ComponentLink2URL: http://katalog.we-online.de/pbs/datasheet/7427924.pdf; Value: 60Ω; Size: 1806
footprint WE-CBF_1806_High Speed
pins: 1, 2

## WE-CBF, 74279241
designator L?, comment 80Ω
WE-CBF SMD EMI Suppression Ferrite Bead, 1806, 80Ω; PartNumber: 74279241; Type: High Speed; PublishedDate: Aug 2016; Publisher: Wurth Elektronik; ComponentLink1Description: Manufacturer; ComponentLink1URL: http://www.we-online.de; ComponentLink2Description: Datasheet; ComponentLink2URL: http://katalog.we-online.de/pbs/datasheet/74279241.pdf; Value: 80Ω; Size: 1806
footprint WE-CBF_1806_High Speed
pins: 1, 2

## WE-CBF, 74279242
designator L?, comment 150Ω
WE-CBF SMD EMI Suppression Ferrite Bead, 1806, 150Ω; PartNumber: 74279242; Type: Wide Band; PublishedDate: Aug 2016; Publisher: Wurth Elektronik; ComponentLink1Description: Manufacturer; ComponentLink1URL: http://www.we-online.de; ComponentLink2Description: Datasheet; ComponentLink2URL: http://katalog.we-online.de/pbs/datasheet/74279242.pdf; Value: 150Ω; Size: 1806
footprint WE-CBF_1806_Wide Band
pins: 1, 2

## WE-CBF, 74279243
designator L?, comment 75Ω
WE-CBF SMD EMI Suppression Ferrite Bead, 1806, 75Ω; PartNumber: 74279243; Type: High Current; PublishedDate: Aug 2016; Publisher: Wurth Elektronik; ComponentLink1Description: Manufacturer; ComponentLink1URL: http://www.we-online.de; ComponentLink2Description: Datasheet; ComponentLink2URL: http://katalog.we-online.de/pbs/datasheet/74279243.pdf; Value: 75Ω; Size: 1806
footprint WE-CBF_1806_High Current
pins: 1, 2

## WE-CBF, 74279244
designator L?, comment 850Ω
WE-CBF SMD EMI Suppression Ferrite Bead, 1806, 850Ω; PartNumber: 74279244; Type: High Current; PublishedDate: Aug 2016; Publisher: Wurth Elektronik; ComponentLink1Description: Manufacturer; ComponentLink1URL: http://www.we-online.de; ComponentLink2Description: Datasheet; ComponentLink2URL: http://katalog.we-online.de/pbs/datasheet/74279244.pdf; Value: 850Ω; Size: 1806
footprint WE-CBF_1806_High Current
pins: 1, 2

## WE-CBF, 74279245
designator L?, comment 110Ω
WE-CBF SMD EMI Suppression Ferrite Bead, 1806, 110Ω; PartNumber: 74279245; Type: High Current; PublishedDate: Aug 2016; Publisher: Wurth Elektronik; ComponentLink1Description: Manufacturer; ComponentLink1URL: http://www.we-online.de; ComponentLink2Description: Datasheet; ComponentLink2URL: http://katalog.we-online.de/pbs/datasheet/74279245.pdf; Value: 110Ω; Size: 1806
footprint WE-CBF_1806_High Current
pins: 1, 2

## WE-CBF, 742792410
designator L?, comment 60Ω
WE-CBF SMD EMI Suppression Ferrite Bead, 1806, 60Ω; PartNumber: 742792410; Type: High Current; PublishedDate: Aug 2016; Publisher: Wurth Elektronik; ComponentLink1Description: Manufacturer; ComponentLink1URL: http://www.we-online.de; ComponentLink2Description: Datasheet; ComponentLink2URL: http://katalog.we-online.de/pbs/datasheet/742792410.pdf; Value: 60Ω; Size: 1806
footprint WE-CBF_1806_High Current
pins: 1, 2

## WE-CBF, 742792411
designator L?, comment 80Ω
WE-CBF SMD EMI Suppression Ferrite Bead, 1806, 80Ω; PartNumber: 742792411; Type: High Current; PublishedDate: Aug 2016; Publisher: Wurth Elektronik; ComponentLink1Description: Manufacturer; ComponentLink1URL: http://www.we-online.de; ComponentLink2Description: Datasheet; ComponentLink2URL: http://katalog.we-online.de/pbs/datasheet/742792411.pdf; Value: 80Ω; Size: 1806
footprint WE-CBF_1806_High Current
pins: 1, 2


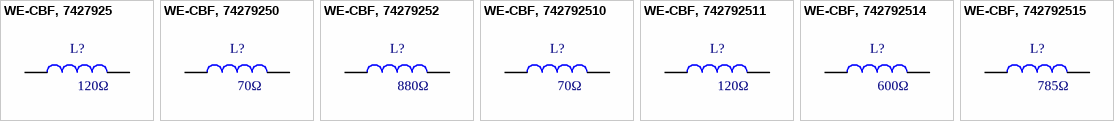
[diagram p5: symbols WE-CBF, 7427925 to WE-CBF, 742792515]

## WE-CBF, 7427925
designator L?, comment 120Ω
WE-CBF SMD EMI Suppression Ferrite Bead, 1812, 120Ω; PartNumber: 7427925; Type: High Speed; PublishedDate: Aug 2016; Publisher: Wurth Elektronik; ComponentLink1Description: Manufacturer; ComponentLink1URL: http://www.we-online.de; ComponentLink2Description: Datasheet; ComponentLink2URL: http://katalog.we-online.de/pbs/datasheet/7427925.pdf; Value: 120Ω; Size: 1812
footprint WE-CBF_1812_High Speed
pins: 1, 2

## WE-CBF, 74279250
designator L?, comment 70Ω
WE-CBF SMD EMI Suppression Ferrite Bead, 1812, 70Ω; PartNumber: 74279250; Type: Wide Band; PublishedDate: Aug 2016; Publisher: Wurth Elektronik; ComponentLink1Description: Manufacturer; ComponentLink1URL: http://www.we-online.de; ComponentLink2Description: Datasheet; ComponentLink2URL: http://katalog.we-online.de/pbs/datasheet/74279250.pdf; Value: 70Ω; Size: 1812
footprint WE-CBF_1812_Wide Band
pins: 1, 2

## WE-CBF, 74279252
designator L?, comment 880Ω
WE-CBF SMD EMI Suppression Ferrite Bead, 1812, 880Ω; PartNumber: 74279252; Type: High Current; PublishedDate: Aug 2016; Publisher: Wurth Elektronik; ComponentLink1Description: Manufacturer; ComponentLink1URL: http://www.we-online.de; ComponentLink2Description: Datasheet; ComponentLink2URL: http://katalog.we-online.de/pbs/datasheet/74279252.pdf; Value: 880Ω; Size: 1812
footprint WE-CBF_1812_High Current
pins: 1, 2

## WE-CBF, 742792510
designator L?, comment 70Ω
WE-CBF SMD EMI Suppression Ferrite Bead, 1812, 70Ω; PartNumber: 742792510; Type: High Current; PublishedDate: Aug 2016; Publisher: Wurth Elektronik; ComponentLink1Description: Manufacturer; ComponentLink1URL: http://www.we-online.de; ComponentLink2Description: Datasheet; ComponentLink2URL: http://katalog.we-online.de/pbs/datasheet/742792510.pdf; Value: 70Ω; Size: 1812
footprint WE-CBF_1812_High Current
pins: 1, 2

## WE-CBF, 742792511
designator L?, comment 120Ω
WE-CBF SMD EMI Suppression Ferrite Bead, 1812, 120Ω; PartNumber: 742792511; Type: High Current; PublishedDate: Aug 2016; Publisher: Wurth Elektronik; ComponentLink1Description: Manufacturer; ComponentLink1URL: http://www.we-online.de; ComponentLink2Description: Datasheet; ComponentLink2URL: http://katalog.we-online.de/pbs/datasheet/742792511.pdf; Value: 120Ω; Size: 1812
footprint WE-CBF_1812_High Current
pins: 1, 2

## WE-CBF, 742792514
designator L?, comment 600Ω
WE-CBF SMD EMI Suppression Ferrite Bead, 1812, 600Ω; PartNumber: 742792514; Type: High Current; PublishedDate: Aug 2016; Publisher: Wurth Elektronik; ComponentLink1Description: Manufacturer; ComponentLink1URL: http://www.we-online.de; ComponentLink2Description: Datasheet; ComponentLink2URL: http://katalog.we-online.de/pbs/datasheet/742792514.pdf; Value: 600Ω; Size: 1812
footprint WE-CBF_1812_High Current
pins: 1, 2

## WE-CBF, 742792515
designator L?, comment 785Ω
WE-CBF SMD EMI Suppression Ferrite Bead, 1812, 785Ω; PartNumber: 742792515; Type: High Current; PublishedDate: Aug 2016; Publisher: Wurth Elektronik; ComponentLink1Description: Manufacturer; ComponentLink1URL: http://www.we-online.de; ComponentLink2Description: Datasheet; ComponentLink2URL: http://katalog.we-online.de/pbs/datasheet/742792515.pdf; Value: 785Ω; Size: 1812
footprint WE-CBF_1812_High Current
pins: 1, 2


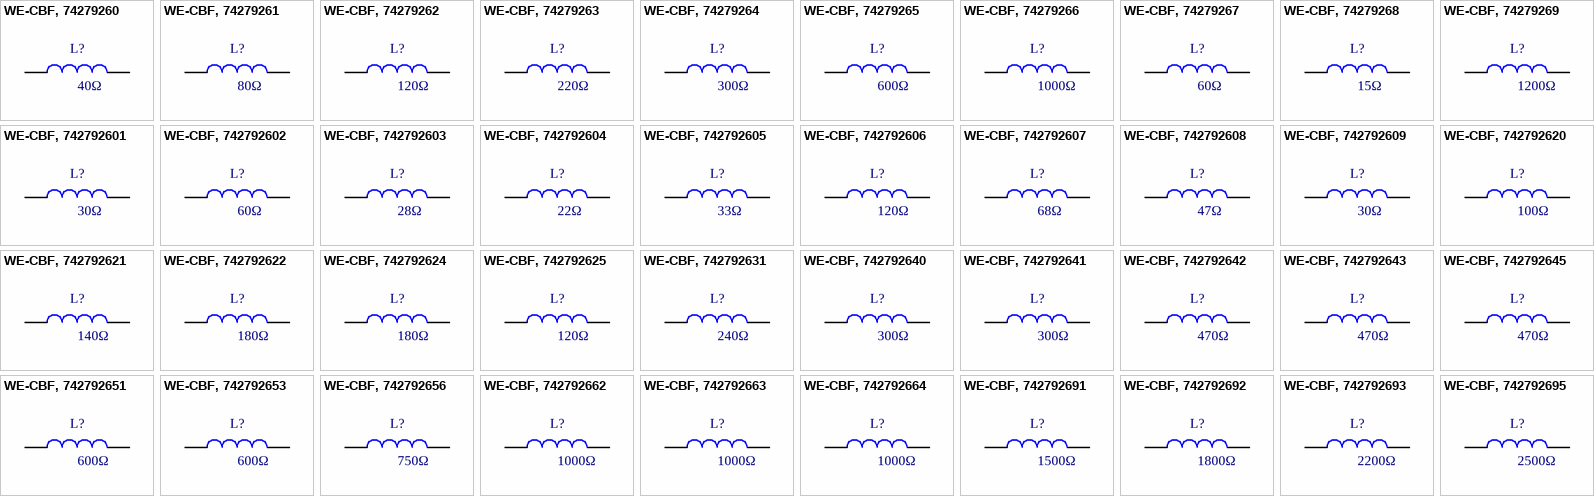
[diagram p6: symbols WE-CBF, 74279260 to WE-CBF, 742792695]

## WE-CBF, 74279260
designator L?, comment 40Ω
WE-CBF SMD EMI Suppression Ferrite Bead, 0603, 40Ω; PartNumber: 74279260; Type: High Speed; PublishedDate: Aug 2016; Publisher: Wurth Elektronik; ComponentLink1Description: Manufacturer; ComponentLink1URL: http://www.we-online.de; ComponentLink2Description: Datasheet; ComponentLink2URL: http://katalog.we-online.de/pbs/datasheet/74279260.pdf; Value: 40Ω; Size: 0603
footprint WE-CBF_0603_High Speed
pins: 1, 2

## WE-CBF, 74279261
designator L?, comment 80Ω
WE-CBF SMD EMI Suppression Ferrite Bead, 0603, 80Ω; PartNumber: 74279261; Type: High Speed; PublishedDate: Aug 2016; Publisher: Wurth Elektronik; ComponentLink1Description: Manufacturer; ComponentLink1URL: http://www.we-online.de; ComponentLink2Description: Datasheet; ComponentLink2URL: http://katalog.we-online.de/pbs/datasheet/74279261.pdf; Value: 80Ω; Size: 0603
footprint WE-CBF_0603_High Speed
pins: 1, 2

## WE-CBF, 74279262
designator L?, comment 120Ω
WE-CBF SMD EMI Suppression Ferrite Bead, 0603, 120Ω; PartNumber: 74279262; Type: Wide Band; PublishedDate: Aug 2016; Publisher: Wurth Elektronik; ComponentLink1Description: Manufacturer; ComponentLink1URL: http://www.we-online.de; ComponentLink2Description: Datasheet; ComponentLink2URL: http://katalog.we-online.de/pbs/datasheet/74279262.pdf; Value: 120Ω; Size: 0603
footprint WE-CBF_0603_Wide Band
pins: 1, 2

## WE-CBF, 74279263
designator L?, comment 220Ω
WE-CBF SMD EMI Suppression Ferrite Bead, 0603, 220Ω; PartNumber: 74279263; Type: Wide Band; PublishedDate: Aug 2016; Publisher: Wurth Elektronik; ComponentLink1Description: Manufacturer; ComponentLink1URL: http://www.we-online.de; ComponentLink2Description: Datasheet; ComponentLink2URL: http://katalog.we-online.de/pbs/datasheet/74279263.pdf; Value: 220Ω; Size: 0603
footprint WE-CBF_0603_Wide Band
pins: 1, 2

## WE-CBF, 74279264
designator L?, comment 300Ω
WE-CBF SMD EMI Suppression Ferrite Bead, 0603, 300Ω; PartNumber: 74279264; Type: High Speed; PublishedDate: Aug 2016; Publisher: Wurth Elektronik; ComponentLink1Description: Manufacturer; ComponentLink1URL: http://www.we-online.de; ComponentLink2Description: Datasheet; ComponentLink2URL: http://katalog.we-online.de/pbs/datasheet/74279264.pdf; Value: 300Ω; Size: 0603
footprint WE-CBF_0603_High Speed
pins: 1, 2

## WE-CBF, 74279265
designator L?, comment 600Ω
WE-CBF SMD EMI Suppression Ferrite Bead, 0603, 600Ω; PartNumber: 74279265; Type: Wide Band; PublishedDate: Aug 2016; Publisher: Wurth Elektronik; ComponentLink1Description: Manufacturer; ComponentLink1URL: http://www.we-online.de; ComponentLink2Description: Datasheet; ComponentLink2URL: http://katalog.we-online.de/pbs/datasheet/74279265.pdf; Value: 600Ω; Size: 0603
footprint WE-CBF_0603_Wide Band
pins: 1, 2

## WE-CBF, 74279266
designator L?, comment 1000Ω
WE-CBF SMD EMI Suppression Ferrite Bead, 0603, 1000Ω; PartNumber: 74279266; Type: Wide Band; PublishedDate: Aug 2016; Publisher: Wurth Elektronik; ComponentLink1Description: Manufacturer; ComponentLink1URL: http://www.we-online.de; ComponentLink2Description: Datasheet; ComponentLink2URL: http://katalog.we-online.de/pbs/datasheet/74279266.pdf; Value: 1000Ω; Size: 0603
footprint WE-CBF_0603_Wide Band
pins: 1, 2

## WE-CBF, 74279267
designator L?, comment 60Ω
WE-CBF SMD EMI Suppression Ferrite Bead, 0603, 60Ω; PartNumber: 74279267; Type: High Speed; PublishedDate: Aug 2016; Publisher: Wurth Elektronik; ComponentLink1Description: Manufacturer; ComponentLink1URL: http://www.we-online.de; ComponentLink2Description: Datasheet; ComponentLink2URL: http://katalog.we-online.de/pbs/datasheet/74279267.pdf; Value: 60Ω; Size: 0603
footprint WE-CBF_0603_High Speed
pins: 1, 2

## WE-CBF, 74279268
designator L?, comment 15Ω
WE-CBF SMD EMI Suppression Ferrite Bead, 0603, 15Ω; PartNumber: 74279268; Type: High Speed; PublishedDate: Aug 2016; Publisher: Wurth Elektronik; ComponentLink1Description: Manufacturer; ComponentLink1URL: http://www.we-online.de; ComponentLink2Description: Datasheet; ComponentLink2URL: http://katalog.we-online.de/pbs/datasheet/74279268.pdf; Value: 15Ω; Size: 0603
footprint WE-CBF_0603_High Speed
pins: 1, 2

## WE-CBF, 74279269
designator L?, comment 1200Ω
WE-CBF SMD EMI Suppression Ferrite Bead, 0603, 1200Ω; PartNumber: 74279269; Type: Wide Band; PublishedDate: Aug 2016; Publisher: Wurth Elektronik; ComponentLink1Description: Manufacturer; ComponentLink1URL: http://www.we-online.de; ComponentLink2Description: Datasheet; ComponentLink2URL: http://katalog.we-online.de/pbs/datasheet/74279269.pdf; Value: 1200Ω; Size: 0603
footprint WE-CBF_0603_Wide Band
pins: 1, 2

## WE-CBF, 742792601
designator L?, comment 30Ω
WE-CBF SMD EMI Suppression Ferrite Bead, 0603, 30Ω; PartNumber: 742792601; Type: High Current; PublishedDate: Aug 2016; Publisher: Wurth Elektronik; ComponentLink1Description: Manufacturer; ComponentLink1URL: http://www.we-online.de; ComponentLink2Description: Datasheet; ComponentLink2URL: http://katalog.we-online.de/pbs/datasheet/742792601.pdf; Value: 30Ω; Size: 0603
footprint WE-CBF_0603_High Current
pins: 1, 2

## WE-CBF, 742792602
designator L?, comment 60Ω
WE-CBF SMD EMI Suppression Ferrite Bead, 0603, 60Ω; PartNumber: 742792602; Type: High Current; PublishedDate: Aug 2016; Publisher: Wurth Elektronik; ComponentLink1Description: Manufacturer; ComponentLink1URL: http://www.we-online.de; ComponentLink2Description: Datasheet; ComponentLink2URL: http://katalog.we-online.de/pbs/datasheet/742792602.pdf; Value: 60Ω; Size: 0603
footprint WE-CBF_0603_High Current
pins: 1, 2

## WE-CBF, 742792603
designator L?, comment 28Ω
WE-CBF SMD EMI Suppression Ferrite Bead, 0603, 28Ω; PartNumber: 742792603; Type: High Current; PublishedDate: Aug 2016; Publisher: Wurth Elektronik; ComponentLink1Description: Manufacturer; ComponentLink1URL: http://www.we-online.de; ComponentLink2Description: Datasheet; ComponentLink2URL: http://katalog.we-online.de/pbs/datasheet/742792603.pdf; Value: 28Ω; Size: 0603
footprint WE-CBF_0603_High Current
pins: 1, 2

## WE-CBF, 742792604
designator L?, comment 22Ω
WE-CBF SMD EMI Suppression Ferrite Bead, 0603, 22Ω; PartNumber: 742792604; Type: High Current; PublishedDate: Aug 2016; Publisher: Wurth Elektronik; ComponentLink1Description: Manufacturer; ComponentLink1URL: http://www.we-online.de; ComponentLink2Description: Datasheet; ComponentLink2URL: http://katalog.we-online.de/pbs/datasheet/742792604.pdf; Value: 22Ω; Size: 0603
footprint WE-CBF_0603_High Current
pins: 1, 2

## WE-CBF, 742792605
designator L?, comment 33Ω
WE-CBF SMD EMI Suppression Ferrite Bead, 0603, 33Ω; PartNumber: 742792605; Type: High Speed; PublishedDate: Aug 2016; Publisher: Wurth Elektronik; ComponentLink1Description: Manufacturer; ComponentLink1URL: http://www.we-online.de; ComponentLink2Description: Datasheet; ComponentLink2URL: http://katalog.we-online.de/pbs/datasheet/742792605.pdf; Value: 33Ω; Size: 0603
footprint WE-CBF_0603_High Speed
pins: 1, 2

## WE-CBF, 742792606
designator L?, comment 120Ω
WE-CBF SMD EMI Suppression Ferrite Bead, 0603, 120Ω; PartNumber: 742792606; Type: High Speed; PublishedDate: Aug 2016; Publisher: Wurth Elektronik; ComponentLink1Description: Manufacturer; ComponentLink1URL: http://www.we-online.de; ComponentLink2Description: Datasheet; ComponentLink2URL: http://katalog.we-online.de/pbs/datasheet/742792606.pdf; Value: 120Ω; Size: 0603
footprint WE-CBF_0603_High Speed
pins: 1, 2

## WE-CBF, 742792607
designator L?, comment 68Ω
WE-CBF SMD EMI Suppression Ferrite Bead, 0603, 68Ω; PartNumber: 742792607; Type: High Speed; PublishedDate: Aug 2016; Publisher: Wurth Elektronik; ComponentLink1Description: Manufacturer; ComponentLink1URL: http://www.we-online.de; ComponentLink2Description: Datasheet; ComponentLink2URL: http://katalog.we-online.de/pbs/datasheet/742792607.pdf; Value: 68Ω; Size: 0603
footprint WE-CBF_0603_High Speed
pins: 1, 2

## WE-CBF, 742792608
designator L?, comment 47Ω
WE-CBF SMD EMI Suppression Ferrite Bead, 0603, 47Ω; PartNumber: 742792608; Type: High Speed; PublishedDate: Aug 2016; Publisher: Wurth Elektronik; ComponentLink1Description: Manufacturer; ComponentLink1URL: http://www.we-online.de; ComponentLink2Description: Datasheet; ComponentLink2URL: http://katalog.we-online.de/pbs/datasheet/742792608.pdf; Value: 47Ω; Size: 0603
footprint WE-CBF_0603_High Speed
pins: 1, 2

## WE-CBF, 742792609
designator L?, comment 30Ω
WE-CBF SMD EMI Suppression Ferrite Bead, 0603, 30Ω; PartNumber: 742792609; Type: High Current; PublishedDate: Aug 2016; Publisher: Wurth Elektronik; ComponentLink1Description: Manufacturer; ComponentLink1URL: http://www.we-online.de; ComponentLink2Description: Datasheet; ComponentLink2URL: http://katalog.we-online.de/pbs/datasheet/742792609.pdf; Value: 30Ω; Size: 0603
footprint WE-CBF_0603_High Current
pins: 1, 2

## WE-CBF, 742792620
designator L?, comment 100Ω
WE-CBF SMD EMI Suppression Ferrite Bead, 0603, 100Ω; PartNumber: 742792620; Type: Wide Band; PublishedDate: Aug 2016; Publisher: Wurth Elektronik; ComponentLink1Description: Manufacturer; ComponentLink1URL: http://www.we-online.de; ComponentLink2Description: Datasheet; ComponentLink2URL: http://katalog.we-online.de/pbs/datasheet/742792620.pdf; Value: 100Ω; Size: 0603
footprint WE-CBF_0603_Wide Band
pins: 1, 2